# Altium footprint library Coil.PcbLib: 2 footprints
Each footprint in its own frame and in the unit in brackets; x right, y up, seen from the top. Pads: shape width x height; smd on the part's side, far side on the other; paste and mask are expansions set on the pad; w line width, h text height; cw(c..) or ccw(c..) is an arc to the next point about the centre after c.
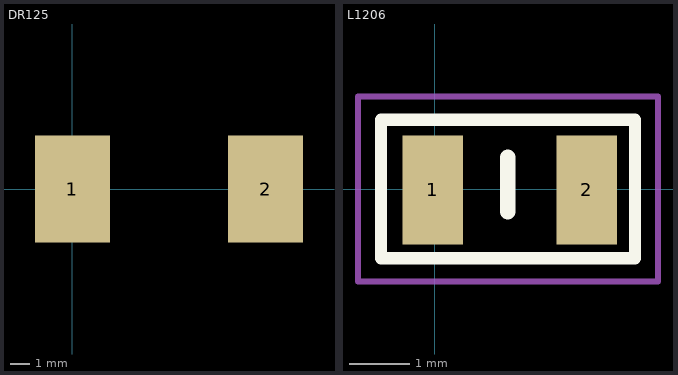
[diagram p0: the footprints below, top view; thin cyan lines are the x and y axes]

## DR125 [mm]
pads (2):
  rect 3.85x5.5 smd: 1(0,0) 2(9.95,0)
3D body "DR125 series.stp": height 5.92, standoff 0.02, extent -0.92,-5.873 11.08,6.127

## L1206 [mm]
pads (2):
  rect 1x1.8 smd mask+0.05: 1(-0.033,-0.015) 2(2.507,-0.015)
Top Overlay:
  lines w0.2: -0.889,-1.143 -0.889,1.143 3.302,1.143 3.302,-1.143 -0.889,-1.143
  lines w0.254: 1.2,-0.375 1.2,0.525
Mechanical 3:
  lines w0.1: -1.27,-1.524 -1.27,1.524 3.683,1.524 3.683,-1.524 -1.27,-1.524
3D body "L_1206.stp": height 0.81, standoff 0.01, extent -0.373,-0.8 2.827,0.8